# Altium schematic symbol library IC_74xx14.SchLib: 1 symbol
Pins are listed as number, name and electrical type; pins without a type are passive.

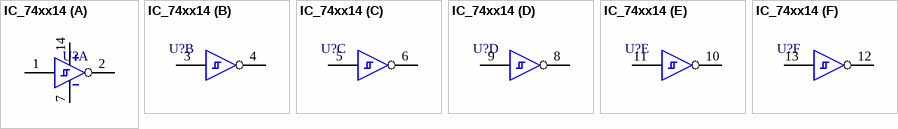
[diagram p0: symbol IC_74xx14]

## IC_74xx14
designator U?
part A pins: 1, 2, 7, 14
part B pins: 3, 4
part C pins: 5, 6
part D pins: 8, 9
part E pins: 10, 11
part F pins: 12, 13